# Altium footprint library Miscellaneous Devices LC.PcbLib: 559 footprints (part 4 of 35)
Each footprint in its own frame and in the unit in brackets; x right, y up, seen from the top. Pads: shape width x height; smd on the part's side, far side on the other; paste and mask are expansions set on the pad; w line width, h text height; cw(c..) or ccw(c..) is an arc to the next point about the centre after c.
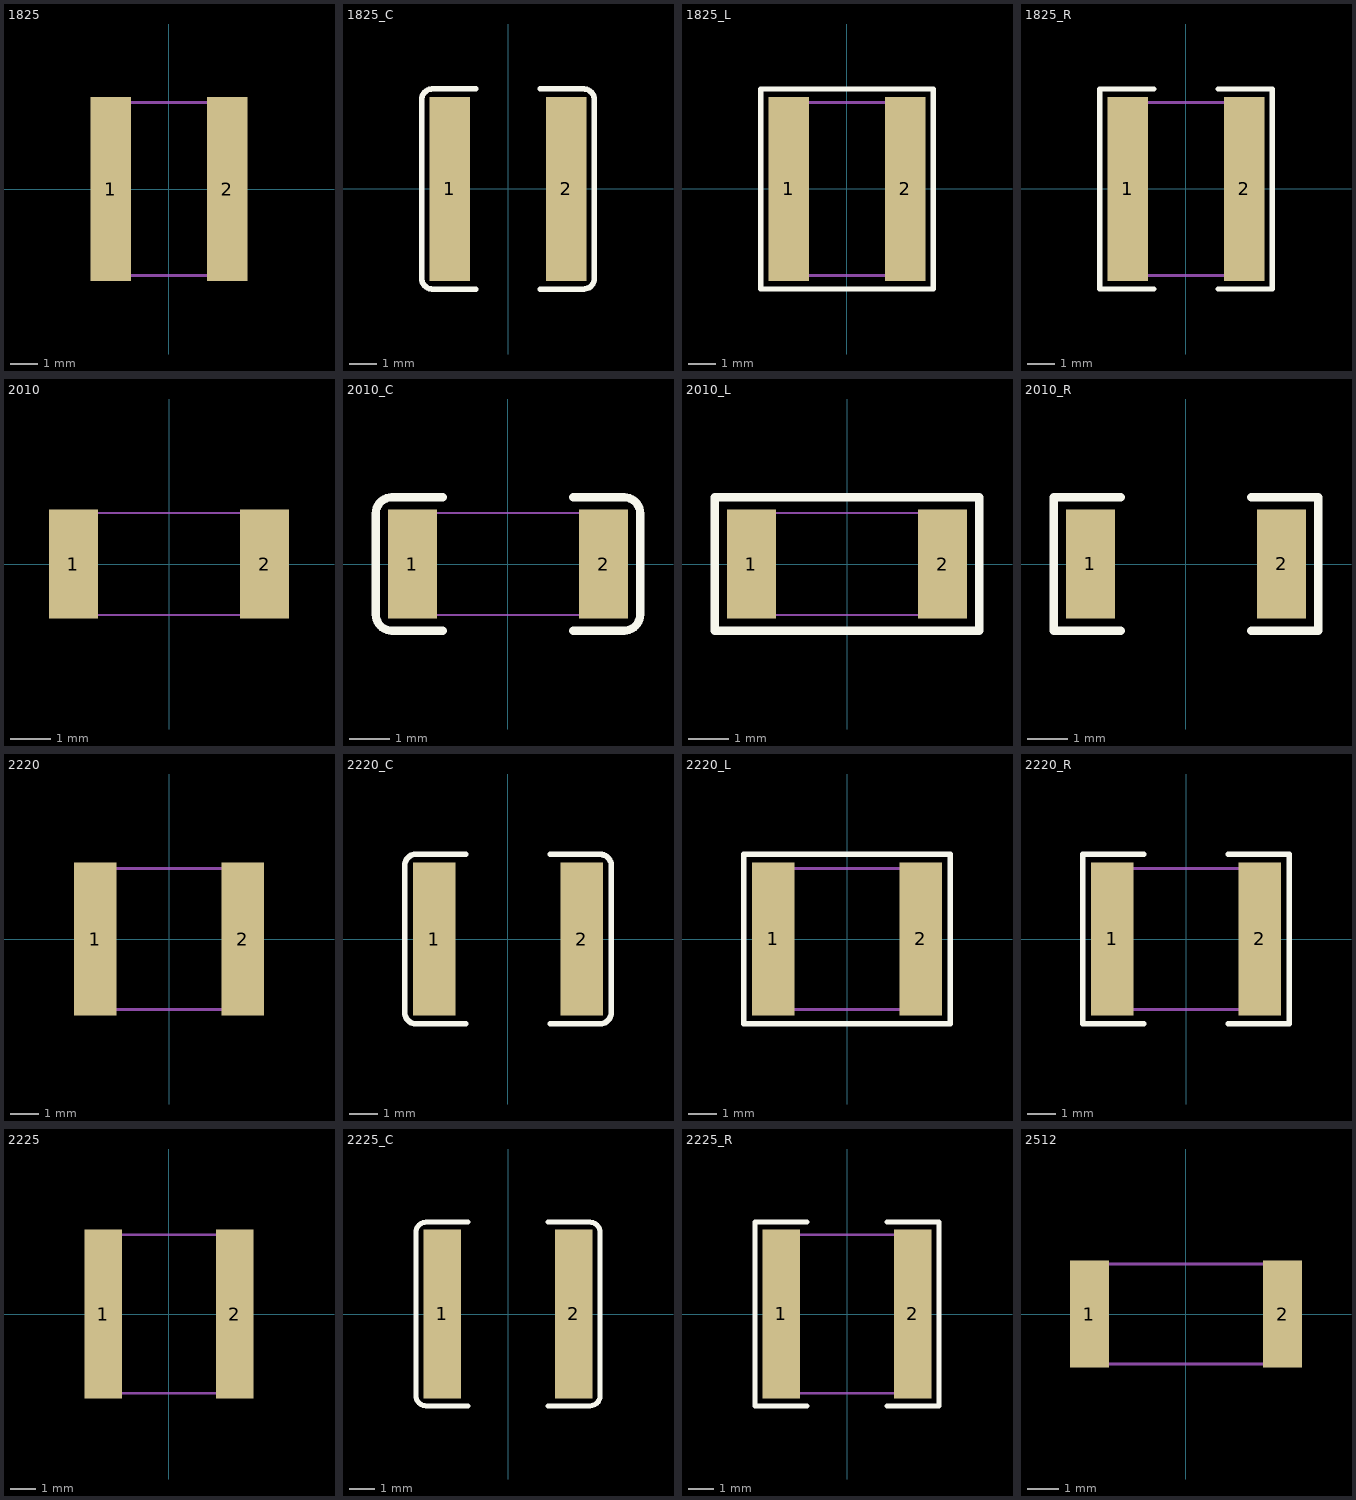
[diagram p3: the footprints below, top view; thin cyan lines are the x and y axes]

## 1825 [mm]
pads (2):
  rect 1.5x6.81 smd: 1(-2.15,0) 2(2.15,0)
Mechanical 13:
  lines w0.1: -2.3,-3.2 2.3,-3.2 2.3,3.2 -2.3,3.2 -2.3,-3.2

## 1825_C [mm]
pads (2):
  rect 1.5x6.81 smd: 1(-2.15,0) 2(2.15,0)
Top Overlay:
  lines w0.203: -1.2,-3.705 -2.8,-3.705 cw(c-2.8,-3.305) -3.2,-3.305 -3.2,3.305 cw(c-2.8,3.305) -2.8,3.705 -1.2,3.705 ; 1.2,-3.705 2.8,-3.705 ccw(c2.8,-3.305) 3.2,-3.305 3.2,3.305 ccw(c2.8,3.305) 2.8,3.705 1.2,3.705
3D body "User Library-CAPC4564X13.STEP": height 1.3, standoff 0, extent -2.25,-3.2 2.25,3.2

## 1825_L [mm]
pads (2):
  rect 1.5x6.81 smd: 1(-2.15,0) 2(2.15,0)
Top Overlay:
  lines w0.2: -3.2,-3.705 -3.2,3.705 3.2,3.705 3.2,-3.705 -3.2,-3.705
Mechanical 13:
  lines w0.1: -2.3,-3.2 2.3,-3.2 2.3,3.2 -2.3,3.2 -2.3,-3.2

## 1825_R [mm]
pads (2):
  rect 1.5x6.81 smd: 1(-2.15,0) 2(2.15,0)
Top Overlay:
  lines w0.2: -1.2,-3.705 -3.2,-3.705 -3.2,3.705 -1.2,3.705 ; 1.2,-3.705 3.2,-3.705 3.2,3.705 1.2,3.705
Mechanical 13:
  lines w0.1: -2.3,-3.2 -2.3,3.2 2.3,3.2 2.3,-3.2 -2.3,-3.2

## 2010 [mm]
pads (2):
  rect 1.2x2.67 smd: 1(-2.34,0) 2(2.34,0)
Mechanical 13:
  lines w0.05: -2.5,-1.25 -2.5,1.25 2.5,1.25 2.5,-1.25 -2.5,-1.25

## 2010_C [mm]
pads (2):
  rect 1.2x2.67 smd: 1(-2.34,0) 2(2.34,0)
Top Overlay:
  lines w0.2: -1.6,-1.635 -2.84,-1.635 cw(c-2.84,-1.235) -3.24,-1.235 -3.24,1.235 cw(c-2.84,1.235) -2.84,1.635 -1.6,1.635 ; 1.6,-1.635 2.84,-1.635 ccw(c2.84,-1.235) 3.24,-1.235 3.24,1.235 ccw(c2.84,1.235) 2.84,1.635 1.6,1.635
Mechanical 13:
  lines w0.05: -2.5,-1.25 -2.5,1.25 2.5,1.25 2.5,-1.25 -2.5,-1.25

## 2010_L [mm]
pads (2):
  rect 1.2x2.67 smd: 1(-2.34,0) 2(2.34,0)
Top Overlay:
  lines w0.2: -3.24,-1.635 3.24,-1.635 3.24,1.635 -3.24,1.635 -3.24,-1.635
Mechanical 13:
  lines w0.05: -2.5,-1.25 2.5,-1.25 2.5,1.25 -2.5,1.25 -2.5,-1.25

## 2010_R [mm]
pads (2):
  rect 1.2x2.67 smd: 1(-2.34,0) 2(2.34,0)
Top Overlay:
  lines w0.2: -1.6,-1.635 -3.24,-1.635 -3.24,1.635 -1.6,1.635 ; 1.6,-1.635 3.24,-1.635 3.24,1.635 1.6,1.635
3D body "User Library-R_2010.STEP": height 0.6, standoff 0, extent -2.5,-1.25 2.5,1.25

## 2220 [mm]
pads (2):
  rect 1.5x5.42 smd: 1(-2.62,0) 2(2.62,0)
Mechanical 13:
  lines w0.1: -2.9,-2.5 2.9,-2.5 2.9,2.5 -2.9,2.5 -2.9,-2.5

## 2220_C [mm]
pads (2):
  rect 1.5x5.42 smd: 1(-2.62,0) 2(2.62,0)
Top Overlay:
  lines w0.2: -1.5,-3.01 -3.27,-3.01 cw(c-3.27,-2.61) -3.67,-2.61 -3.67,2.61 cw(c-3.27,2.61) -3.27,3.01 -1.5,3.01 ; 1.5,-3.01 3.27,-3.01 ccw(c3.27,-2.61) 3.67,-2.61 3.67,2.61 ccw(c3.27,2.61) 3.27,3.01 1.5,3.01
3D body "User Library-CAPC5750X23.STEP": height 2.3, standoff 0, extent -2.85,-2.5 2.85,2.5

## 2220_L [mm]
pads (2):
  rect 1.5x5.42 smd: 1(-2.62,0) 2(2.62,0)
Top Overlay:
  lines w0.2: -3.67,-3.01 3.67,-3.01 3.67,3.01 -3.67,3.01 -3.67,-3.01
Mechanical 13:
  lines w0.1: -2.9,-2.5 -2.9,2.5 2.9,2.5 2.9,-2.5 -2.9,-2.5

## 2220_R [mm]
pads (2):
  rect 1.5x5.42 smd: 1(-2.62,0) 2(2.62,0)
Top Overlay:
  lines w0.2: -1.5,-3.01 -3.67,-3.01 -3.67,3.01 -1.5,3.01 ; 1.5,-3.01 3.67,-3.01 3.67,3.01 1.5,3.01
Mechanical 13:
  lines w0.1: -2.9,-2.5 -2.9,2.5 2.9,2.5 2.9,-2.5 -2.9,-2.5

## 2225 [mm]
pads (2):
  rect 1.5x6.72 smd: 1(-2.62,0) 2(2.62,0)
Mechanical 13:
  lines w0.1: -2.85,-3.15 -2.85,3.15 2.85,3.15 2.85,-3.15 -2.85,-3.15

## 2225_C [mm]
pads (2):
  rect 1.5x6.72 smd: 1(-2.62,0) 2(2.62,0)
Top Overlay:
  lines w0.2: -1.6,-3.66 -3.27,-3.66 cw(c-3.27,-3.26) -3.67,-3.26 -3.67,3.26 cw(c-3.27,3.26) -3.27,3.66 -1.6,3.66 ; 1.6,-3.66 3.27,-3.66 ccw(c3.27,-3.26) 3.67,-3.26 3.67,3.26 ccw(c3.27,3.26) 3.27,3.66 1.6,3.66
3D body "User Library-CAPC5764X13.STEP": height 1.3, standoff 0, extent -2.85,-3.175 2.85,3.175

## 2225_R [mm]
pads (2):
  rect 1.5x6.72 smd: 1(-2.62,0) 2(2.62,0)
Top Overlay:
  lines w0.2: -1.6,-3.66 -3.67,-3.66 -3.67,3.66 -1.6,3.66 ; 1.6,-3.66 3.67,-3.66 3.67,3.66 1.6,3.66
Mechanical 13:
  lines w0.1: -2.85,-3.15 2.85,-3.15 2.85,3.15 -2.85,3.15 -2.85,-3.15

## 2512 [mm]
pads (2):
  rect 1.25x3.42 smd: 1(-3.1,0) 2(3.1,0)
Mechanical 13:
  lines w0.1: -3.15,-1.6 3.15,-1.6 3.15,1.6 -3.15,1.6 -3.15,-1.6